# Altium footprint library LibTim_Misc.PcbLib: 21 footprints (part 1 of 2)
Each footprint in its own frame and in the unit in brackets; x right, y up, seen from the top. Pads: shape width x height; smd on the part's side, far side on the other; paste and mask are expansions set on the pad; w line width, h text height; cw(c..) or ccw(c..) is an arc to the next point about the centre after c.
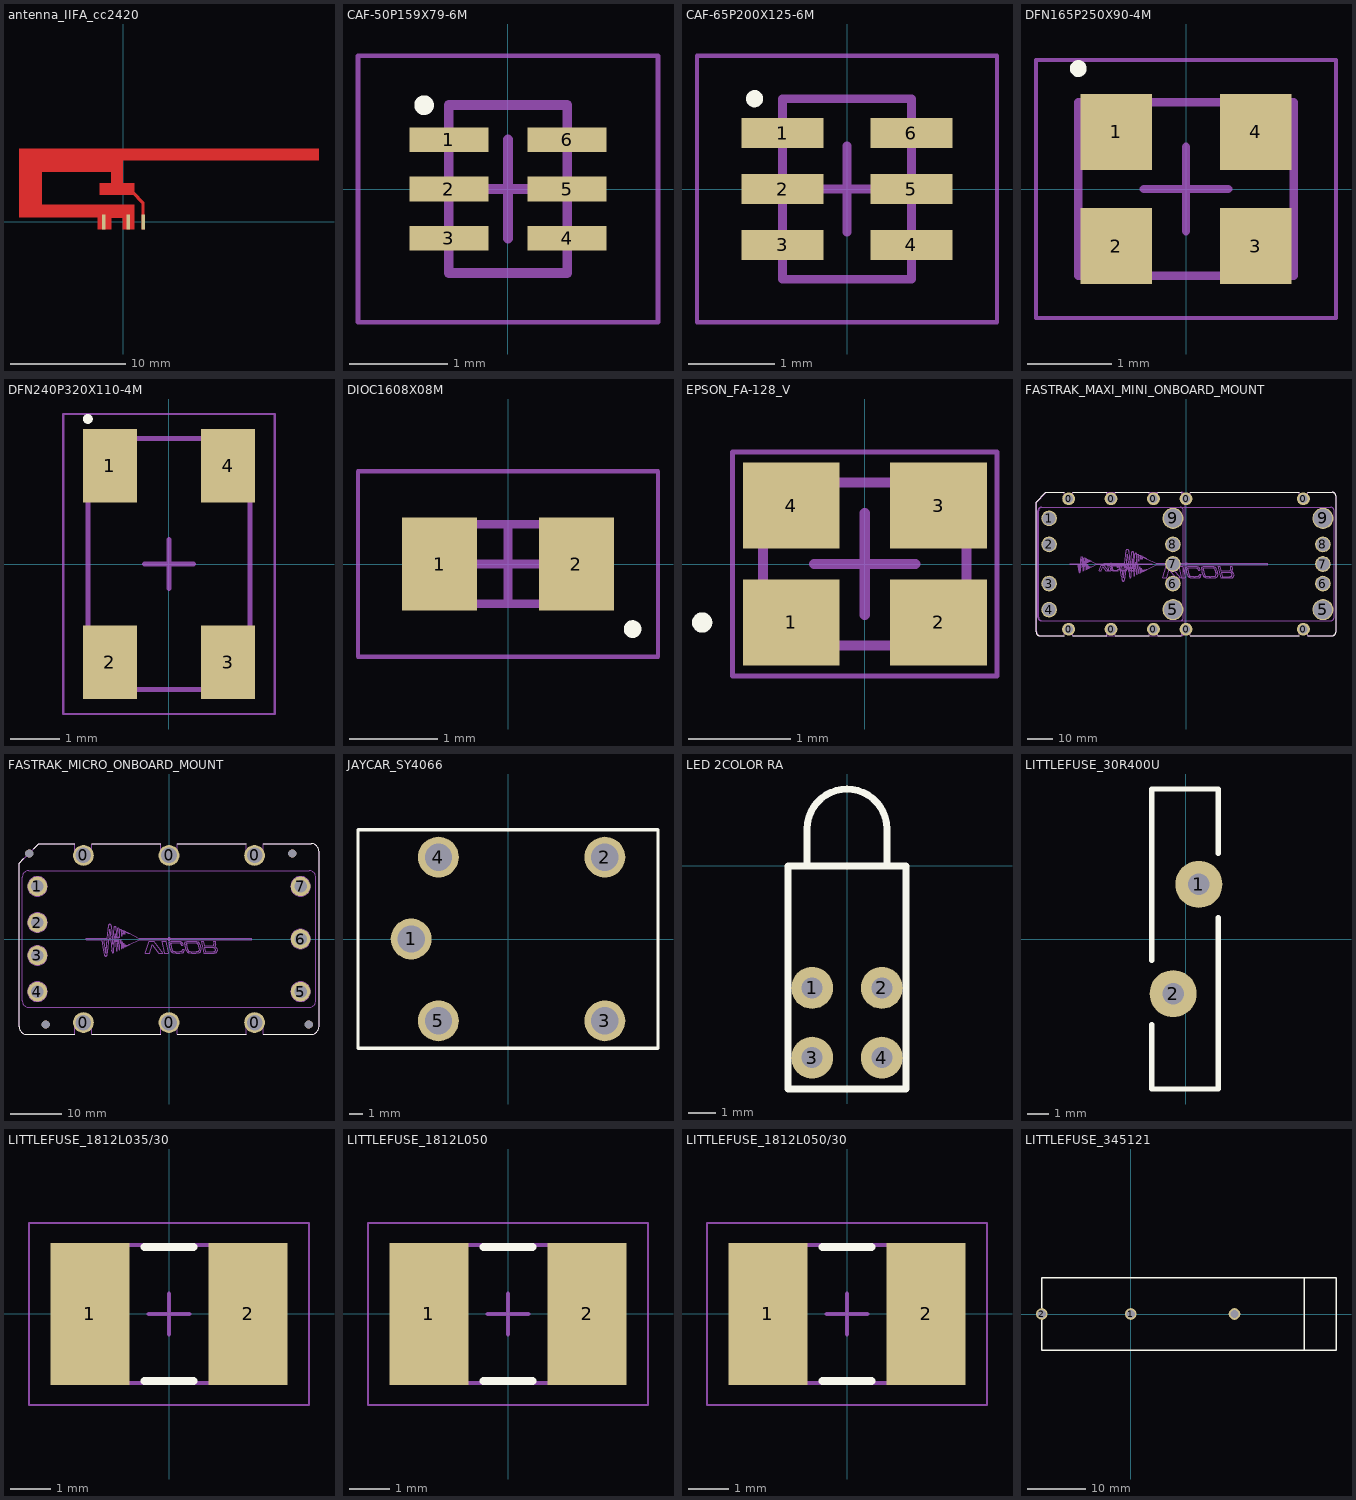
[diagram p0: the footprints below, top view; thin cyan lines are the x and y axes]

## antenna_IIFA_cc2420 [mm]
pads (3):
  rect 0.3x1.3 smd paste+0 mask+0: 1(1.702,0) 2(0.406,0) 3(-1.702,0)
Top Layer:
  region: 1.575,1.549 1.549,1.626 0.711,2.464 0.94,2.591 1.829,1.702 1.829,1.549
  region: 1.829,-0.66 1.575,-0.66 1.575,1.563 1.829,1.563
  region: 0.942,-0.66 -0.058,-0.66 -0.058,0.34 -1.058,0.34 -1.058,-0.66 -2.208,-0.66 -2.208,0.406 -9.04,0.406 -9.04,6.34 16.942,6.34 16.942,5.34 -0.058,5.34 -0.058,3.34 0.942,3.34 0.942,2.34 -2.058,2.34 -2.058,3.34 -1.058,3.34 -1.058,4.34 -7.058,4.34 -7.058,1.473 0.942,1.473

## CAF-50P159X79-6M [mm] "Chip Array, Flat, 6-Leads, Pitch 0.50mm,  Body 1.60x0.80mm,  IPC Low Density"
height 0.7
pads (6):
  rect 0.8x0.25 smd: 1(-0.6,0.5) 2(-0.6,0) 3(-0.6,-0.5) 4(0.6,-0.5) 5(0.6,0) 6(0.6,0.5)
Top Overlay:
  circle w0.1: c-0.85,0.85 r0.05
Mechanical 13:
  lines w0.1: -0.6,-0.85 -0.6,0.85 0.6,0.85 0.6,-0.85 -0.6,-0.85
Mechanical 15:
  lines w0.05: -1.52,-1.35 -1.52,1.35 1.52,1.35 1.52,-1.35 -1.52,-1.35
  lines w0.1: -0.5,0 0.5,0 ; 0,-0.5 0,0.5
3D body: height 0.7, standoff 0, extent -0.45,-0.85 0.45,0.85

## CAF-65P200X125-6M [mm] "Chip Array, Flat, 6-Leads, Pitch 0.65mm,  Body 2.00x1.25mm,  IPC Low Density"
height 0.8
pads (6):
  rect 0.95x0.35 smd: 1(-0.75,0.65) 2(-0.75,0) 3(-0.75,-0.65) 4(0.75,-0.65) 5(0.75,0) 6(0.75,0.65)
Top Overlay:
  circle w0.1: c-1.075,1.05 r0.05
Mechanical 13:
  lines w0.1: -0.75,-1.05 -0.75,1.05 0.75,1.05 0.75,-1.05 -0.75,-1.05
Mechanical 15:
  lines w0.05: -1.745,-1.55 -1.745,1.55 1.745,1.55 1.745,-1.55 -1.745,-1.55
  lines w0.1: -0.5,0 0.5,0 ; 0,-0.5 0,0.5
3D body: height 0.8, standoff 0, extent -0.675,-1.05 0.675,1.05

## DFN165P250X90-4M [mm] "DFN, 4-Leads, Body 2.00x2.50mm, Pitch 1.65mm, IPC Low Density"
height 0.9
pads (4):
  rect 0.85x0.9 smd: 1(-0.825,0.675) 2(-0.825,-0.675) 3(0.825,-0.675) 4(0.825,0.675)
Top Overlay:
  circle w0.1: c-1.275,1.425 r0.05
Mechanical 13:
  lines w0.1: -1.275,-1.025 -1.275,1.025 1.275,1.025 1.275,-1.025 -1.275,-1.025
Mechanical 15:
  lines w0.05: -1.775,-1.525 -1.775,1.525 1.775,1.525 1.775,-1.525 -1.775,-1.525
  lines w0.1: -0.5,0 0.5,0 ; 0,-0.5 0,0.5
3D body: height 0.9, standoff 0, extent -1.275,-1.025 1.275,1.025

## DFN240P320X110-4M [mm] "DFN, 4-Leads, Body 5.00x3.20mm, Pitch 2.40mm, IPC Low Density"
height 1.1
pads (4):
  rect 1.1x1.5 smd: 1(-1.2,2) 2(-1.2,-2) 3(1.2,-2) 4(1.2,2)
Top Overlay:
  circle w0.1: c-1.65,2.95 r0.05
Mechanical 13:
  lines w0.1: -1.65,-2.55 -1.65,2.55 1.65,2.55 1.65,-2.55 -1.65,-2.55
Mechanical 15:
  lines w0.05: -2.15,-3.05 -2.15,3.05 2.15,3.05 2.15,-3.05 -2.15,-3.05
  lines w0.1: -0.5,0 0.5,0 ; 0,-0.5 0,0.5
3D body: height 1.1, standoff 0, extent -1.65,-2.55 1.65,2.55

## DIOC1608X08M [mm] "Chip Diode, 2-Leads, Body 1.60x0.80mm, IPC Low Density"
height 0.8
pads (2):
  rect 0.85x1.05 smd: 1(-0.775,0) 2(0.775,0)
Top Overlay:
  circle w0.1: c1.412,-0.737 r0.05
Mechanical 13:
  lines w0.1: -0.85,-0.45 -0.85,0.45 0.85,0.45 0.85,-0.45 -0.85,-0.45
Mechanical 15:
  lines w0.05: -1.7,-1.05 -1.7,1.05 1.7,1.05 1.7,-1.05 -1.7,-1.05
  lines w0.1: -0.45,0 0.45,0 ; 0,-0.45 0,0.45
3D body: height 0.8, standoff 0, extent -0.55,-0.45 0.55,0.45
3D body: height 0.8, standoff 0, extent -0.85,-0.45 -0.55,0.45
3D body: height 0.8, standoff 0, extent 0.55,-0.45 0.85,0.45

## EPSON_FA-128_V [mm] "SMD, 4-Leads, Body 2x1.6mm, Pitch 1.45mm"
height 0.5
pads (4):
  rect 0.95x0.85 smd: 1(-0.725,-0.575) 2(0.725,-0.575) 3(0.725,0.575) 4(-0.725,0.575)
Top Overlay:
  circle w0.1: c-1.6,-0.575 r0.05
Mechanical 13:
  lines w0.1: -1,-0.8 -1,0.8 1,0.8 1,-0.8 -1,-0.8
Mechanical 15:
  lines w0.05: -1.3,-1.1 1.3,-1.1 1.3,1.1 -1.3,1.1 -1.3,-1.1
  lines w0.1: -0.5,0 0.5,0 ; 0,-0.5 0,0.5
3D body "FA-128.stp": height 0.5, standoff 0, extent -1,-0.8 1,0.8

## FASTRAK_MAXI_MINI_ONBOARD_MOUNT [mm]
pads (24):
  round 5 hole 3.3: 0(-45.72,-25.4) 0(-45.71,25.405) 0(-29.2,-25.395) 0(-29.2,25.405) 0(-12.69,-25.395) 0(-12.69,25.405) 0(0,-25.4) 0(0,25.4) 0(45.72,-25.4) 0(45.72,25.4)
  round 6.1 hole 5.08: 1(-53.33,17.785) 2(-53.33,7.625) 3(-53.33,-7.615) 4(-53.33,-17.775) 6(-5.07,-7.615) 6(53.34,-7.62) 7(-5.07,0.005) 7(53.34,0) 8(-5.07,7.625) 8(53.34,7.62)
  round 8.2 hole 7.19: 5(-5.07,-17.775) 5(53.34,-17.78) 9(-5.07,17.785) 9(53.34,17.78)
Top Overlay:
  lines w0.203: -56.632,-27.935 -47.348,-27.935 ; -54.346,27.945 -47.348,27.945 ; -47.358,-27.94 -56.896,-27.94 cw(c-56.896,-26.416) -58.42,-26.416 -58.42,24.13 -54.61,27.94 -47.358,27.94 ; -44.072,-27.935 -30.838,-27.935 ; -44.072,27.945 -30.838,27.945 ; -27.562,-27.935 -14.328,-27.935 ; -27.562,27.945 -14.328,27.945 ; -11.052,-27.935 -1.768,-27.935 ; -11.052,27.945 -1.768,27.945 ; 1.638,-27.94 44.082,-27.94 ; 1.638,27.94 44.082,27.94 ; 47.358,-27.94 56.896,-27.94 ccw(c56.896,-26.416) 58.42,-26.416 58.42,26.416 ccw(c56.896,26.416) 56.896,27.94 47.358,27.94
Mechanical 1:
  drawing of 2520 lines, arcs and shapes, not listed
Mechanical 2:
  circle w0.076: c-5.07,7.625 r1.194
  circle w0.076: c-5.07,0.005 r1.194
  circle w0.076: c-5.07,-7.615 r1.194
  circle w0.076: c-5.07,-7.615 r1.016
  circle w0.076: c-5.07,0.005 r1.016
  circle w0.076: c-5.07,7.625 r1.016
  circle w0.076: c-5.07,7.625 r1.905
  circle w0.076: c-5.07,0.005 r1.905
  circle w0.076: c-5.07,-7.615 r1.905
  circle w0.076: c-5.07,-17.775 r2.794
  circle w0.076: c-5.07,17.785 r2.794
  circle w0.076: c-5.07,-17.775 r2.083
  circle w0.076: c-5.07,17.785 r2.083
  circle w0.076: c-5.07,17.785 r1.905
  circle w0.076: c-5.07,-17.775 r1.905
  circle w0.076: c-53.33,17.785 r1.905
  circle w0.076: c-53.33,7.625 r1.905
  circle w0.076: c-53.33,-7.615 r1.905
  circle w0.076: c-53.33,-17.775 r1.905
  circle w0.076: c-53.33,17.785 r1.194
  circle w0.076: c-53.33,7.625 r1.194
  circle w0.076: c-53.33,-7.615 r1.194
  circle w0.076: c-53.33,-17.775 r1.194
  circle w0.076: c-53.33,-17.775 r1.016
  circle w0.076: c-53.33,-7.615 r1.016
  circle w0.076: c-53.33,7.625 r1.016
  circle w0.076: c-53.33,17.785 r1.016
  circle w0.025: c53.34,7.62 r1.905
  circle w0.025: c53.34,0 r1.905
  circle w0.025: c53.34,-7.62 r1.905
  circle w0.025: c53.34,17.78 r3.175
  circle w0.025: c53.34,-17.78 r3.175
  circle w0.025: c53.34,7.62 r1.194
  circle w0.025: c53.34,0 r1.194
  circle w0.025: c53.34,-7.62 r1.194
  circle w0.025: c53.34,17.78 r2.464
  circle w0.025: c53.34,-17.78 r2.464
  circle w0.025: c53.34,-7.62 r1.016
  circle w0.025: c53.34,0 r1.016
  circle w0.025: c53.34,7.62 r1.016
  circle w0.025: c53.34,-17.78 r2.286
  circle w0.025: c53.34,17.78 r2.286
  circle w0.025: c-53.34,17.78 r1.905
  circle w0.025: c-53.34,7.62 r1.905
  circle w0.025: c-53.34,-7.62 r1.905
  circle w0.025: c-53.34,-17.78 r1.905
  circle w0.025: c-53.34,17.78 r1.194
  circle w0.025: c-53.34,7.62 r1.194
  circle w0.025: c-53.34,-7.62 r1.194
  circle w0.025: c-53.34,-17.78 r1.194
  circle w0.025: c-53.34,-17.78 r1.016
  circle w0.025: c-53.34,-7.62 r1.016
  circle w0.025: c-53.34,7.62 r1.016
  circle w0.025: c-53.34,17.78 r1.016
Drill Drawing:
  circle w0.076: c-53.33,-17.775 r1.194
  circle w0.076: c-53.33,-7.615 r1.194
  circle w0.076: c-53.33,7.625 r1.194
  circle w0.076: c-53.33,17.785 r1.194
  circle w0.076: c-5.07,17.785 r2.083
  circle w0.076: c-5.07,-17.775 r2.083
  circle w0.076: c-5.07,-7.615 r1.194
  circle w0.076: c-5.07,0.005 r1.194
  circle w0.076: c-5.07,7.625 r1.194
  circle w0.076: c53.34,-17.78 r2.464
  circle w0.076: c53.34,17.78 r2.464
  circle w0.076: c53.34,-7.62 r1.194
  circle w0.076: c53.34,0 r1.194
  circle w0.076: c53.34,7.62 r1.194
  circle w0.076: c-53.34,-17.78 r1.194
  circle w0.076: c-53.34,-7.62 r1.194
  circle w0.076: c-53.34,7.62 r1.194
  circle w0.076: c-53.34,17.78 r1.194
3D body: height 13.5, standoff 0, extent -58.6,-28.1 58.6,28.1

## FASTRAK_MICRO_ONBOARD_MOUNT [mm]
pads (17):
  round 4 hole 3: 0(-16.51,-16.129) 0(-16.51,16.129) 0(0,-16.129) 0(0,16.129) 0(16.51,-16.129) 0(16.51,16.129)
  round 3.81 hole 2.388: 1(-25.4,10.16) 2(-25.4,3.175) 3(-25.4,-3.175) 4(-25.4,-10.16) 5(25.4,-10.16) 6(25.4,0) 7(25.4,10.16)
  round 1.524 hole 1.63: ""(-26.99,16.51) ""(-23.81,-16.51) ""(23.81,16.51) ""(26.99,-16.51)
Top Overlay:
  lines w0.203: -28.003,15.557 -28.956,14.605 -28.956,-16.891 ccw(c-27.432,-16.891) -27.432,-18.415 -18.148,-18.415 ; -26.098,17.462 -25.146,18.415 -18.148,18.415 ; -14.872,-18.415 -1.638,-18.415 ; -14.872,18.415 -1.638,18.415 ; 1.638,-18.415 14.872,-18.415 ; 1.638,18.415 14.872,18.415 ; 18.148,-18.415 27.432,-18.415 ccw(c27.432,-16.891) 28.956,-16.891 28.956,16.891 ccw(c27.432,16.891) 27.432,18.415 18.148,18.415
Mechanical 1:
  drawing of 1232 lines, arcs and shapes, not listed
Mechanical 2:
  circle w0.076: c-25.4,-10.16 r1.194
  circle w0.076: c-25.4,-3.175 r1.194
  circle w0.076: c-25.4,3.175 r1.194
  circle w0.076: c-25.4,10.16 r1.194
  circle w0.076: c-25.4,10.16 r1.905
  circle w0.076: c-25.4,3.175 r1.905
  circle w0.076: c-25.4,-3.175 r1.905
  circle w0.076: c-25.4,-10.16 r1.905
  circle w0.076: c-25.4,-3.175 r1.016
  circle w0.076: c-25.4,-10.16 r1.016
  circle w0.076: c-25.4,3.175 r1.016
  circle w0.076: c-25.4,10.16 r1.016
  circle w0.076: c25.4,-10.16 r1.194
  circle w0.076: c25.4,0 r1.194
  circle w0.076: c25.4,10.16 r1.194
  circle w0.076: c25.4,-10.16 r1.905
  circle w0.076: c25.4,0 r1.905
  circle w0.076: c25.4,10.16 r1.905
  circle w0.076: c25.4,-10.16 r1.016
  circle w0.076: c25.4,0 r1.016
  circle w0.076: c25.4,10.16 r1.016
Drill Drawing:
  circle w0.025: c25.4,10.16 r1.194
  circle w0.025: c25.4,0 r1.194
  circle w0.025: c25.4,-10.16 r1.194
  circle w0.025: c-25.4,10.16 r1.194
  circle w0.025: c-25.4,3.175 r1.194
  circle w0.025: c-25.4,-3.175 r1.194
  circle w0.025: c-25.4,-10.16 r1.194
3D body "37207r1-VxxCxxxxxxBGP.STP": height 13, standoff -3.04, extent -28.812,-18.33 29.1,18.5
3D body "30183r4.STEP": height 36.1, standoff 13.24, extent -28.812,-18.33 29.1,19.008

## JAYCAR_SY4066 [mm]
height 17
pads (5):
  round 3 hole 2: 1(-7.1,0) 2(7.1,6) 3(7.1,-6) 4(-5.1,6) 5(-5.1,-6)
Top Overlay:
  lines w0.254: -11,-8 11,-8 11,8 -11,8 -11,-8
3D body: height 17, standoff 1, extent -11.1,-8.1 11.1,8.1

## LED 2COLOR RA [mil]
pads (4):
  round 60 hole 30: 1(-50,-174.8) 2(50,-174.8) 3(-50,-274.8) 4(50,-274.8)
Top Overlay:
  lines w10: -57.09,0 -57.09,53.15 cw(c0,53.15) 57.09,53.15 57.09,0 ; -84.65,-319.69 84.65,-319.69 84.65,0 -84.65,0 -84.65,-319.69

## LITTLEFUSE_30R400U [mm]
height 23
pads (2):
  round 2.2 hole 1: 1(0.6,2.55) 2(-0.6,-2.55)
Top Overlay:
  lines w0.254: -1.6,-7 -1.6,-4 ; -1.6,-1 -1.6,7 1.5,7 1.5,4 ; -1.5,-7 1.5,-7 1.5,1
3D body: height 23, standoff 1, extent -1.6,-7 1.5,7

## LITTLEFUSE_1812L035/30 [mm]
height 1.25
pads (2):
  rect 1.95x3.5 smd: 1(-1.95,0) 2(1.95,0)
Top Overlay:
  lines w0.2: -0.6,-1.65 0.6,-1.65 ; -0.6,1.65 0.6,1.65
Mechanical 13:
  lines w0.1: -2.365,-1.705 2.365,-1.705 2.365,1.705 -2.365,1.705 -2.365,-1.705
Mechanical 15:
  lines w0.05: -3.45,-2.25 3.45,-2.25 3.45,2.25 -3.45,2.25 -3.45,-2.25
  lines w0.1: -0.5,0 0.5,0 ; 0,-0.5 0,0.5
3D body: height 1.25, standoff 0, extent 1.615,-1.705 2.365,1.705
3D body: height 1.25, standoff 0, extent -2.365,-1.705 -1.615,1.705
3D body: height 1.25, standoff 0, extent -1.615,-1.705 1.615,1.705

## LITTLEFUSE_1812L050 [mm]
height 0.75
pads (2):
  rect 1.95x3.5 smd: 1(-1.95,0) 2(1.95,0)
Top Overlay:
  lines w0.2: -0.6,-1.65 0.6,-1.65 ; -0.6,1.65 0.6,1.65
Mechanical 13:
  lines w0.1: -2.365,-1.705 2.365,-1.705 2.365,1.705 -2.365,1.705 -2.365,-1.705
Mechanical 15:
  lines w0.05: -3.45,-2.25 3.45,-2.25 3.45,2.25 -3.45,2.25 -3.45,-2.25
  lines w0.1: -0.5,0 0.5,0 ; 0,-0.5 0,0.5
3D body: height 0.75, standoff 0, extent 1.615,-1.705 2.365,1.705
3D body: height 0.75, standoff 0, extent -2.365,-1.705 -1.615,1.705
3D body: height 0.75, standoff 0, extent -1.615,-1.705 1.615,1.705

## LITTLEFUSE_1812L050/30 [mm]
height 1
pads (2):
  rect 1.95x3.5 smd: 1(-1.95,0) 2(1.95,0)
Top Overlay:
  lines w0.2: -0.6,-1.65 0.6,-1.65 ; -0.6,1.65 0.6,1.65
Mechanical 13:
  lines w0.1: -2.365,-1.705 -2.365,1.705 2.365,1.705 2.365,-1.705 -2.365,-1.705
Mechanical 15:
  lines w0.05: -3.45,-2.25 -3.45,2.25 3.45,2.25 3.45,-2.25 -3.45,-2.25
  lines w0.1: -0.5,0 0.5,0 ; 0,-0.5 0,0.5
3D body: height 1, standoff 0, extent -1.615,-1.705 1.615,1.705
3D body: height 1, standoff 0, extent -2.365,-1.705 -1.615,1.705
3D body: height 1, standoff 0, extent 1.615,-1.705 2.365,1.705

## LITTLEFUSE_345121 [mm] "5x20mm PCB Mount Fuse Holder"
pads (3):
  round 2 hole 1.422: 1(0,0) 2(-15.24,0) ""(17.78,0)
Top Overlay:
  lines w0.254: 29.718,-6.223 -15.24,-6.223 -15.24,6.223 29.718,6.223 ; 29.718,-6.223 29.718,6.223 ; 29.718,-6.223 35.177,-6.223 35.177,6.223 29.718,6.223